# Altium schematic symbol library Ali-Speaker.SchLib: 1 symbol
Pins are listed as number, name and electrical type; pins without a type are passive.

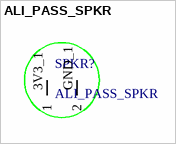
[diagram p0: symbol ALI_PASS_SPKR]

## ALI_PASS_SPKR
designator SPKR?
Slim speaker from aliexpress
footprint AliSpeakerComponent
pins: 3V3_1 1 (power), GND_1 2